# EAGLE library part PIN_HEADER_7 (library 08_CONECTOR)
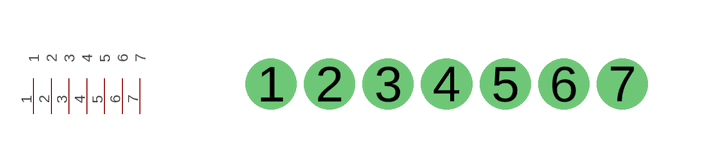
[diagram p6: symbol with the pads of PIN_HEADER_7; footprint PIN_HEADER_7]

Designator prefix -

## PIN_HEADER_7  [PIN_HEADER_7]
1  1
2  2
3  3
4  4
5  5
6  6
7  7

## Footprint PIN_HEADER_7 (pad centres in mm)
drill 0.8: 1 -4.5,0; 2 -3,0; 3 -1.5,0; 4 0,0; 5 1.5,0; 6 3,0; 7 4.5,0